# EAGLE library part CONN-9P (library pinconn)
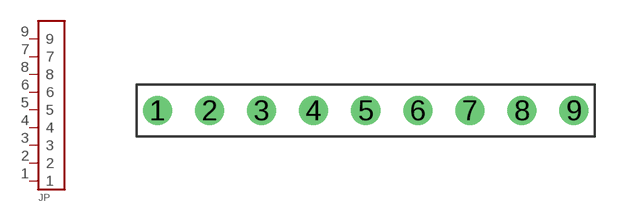
[diagram p11: symbol with the pads of CONN-9P; footprint CONN-9P]

Designator prefix JP

## CONN-9P  [CONN-9P]
1  1
2  2
3  3
4  4
5  5
6  6
7  7
8  8
9  9

## Footprint CONN-9P (pad centres in mm)
drill 0.9 pad 1.422: 1 -10.16,0; 2 -7.62,0; 3 -5.08,0; 4 -2.54,0; 5 0,0; 6 2.54,0; 7 5.08,0; 8 7.62,0; 9 10.16,0